# EAGLE library part EXB-A10P103J (library Resistor Array)
RES ARRAY 8 RES 10K OHM 2512 Manufacturer's datasheet <https://industrial.panasonic.com/cdbs/www-data/pdf/AOC0000/AOC0000C12.pdf>
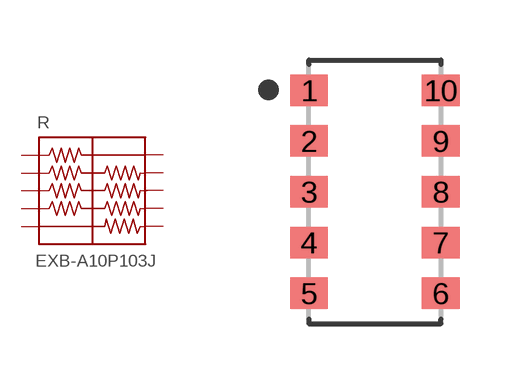
[diagram p6: symbol with the pads of EXB-A10P103J; footprint EXB-A10P103J]

Designator prefix R

## EXB-A10P103J (CREATED_BY: PCBLayout.com; DIGIKEY_PARTNO: U7103TR-ND; MANUFACTURER: Panasonic Electronic Components; MPN: EXB-A10P103J; PACKAGE: 2512)  [EXB-A10P103J]
1  1  pas
2  2  pas
3  3  pas
4  4  pas
5  5  pas
6  6  pas
7  7  pas
8  8  pas
9  9  pas
10  10  pas

## Footprint EXB-A10P103J (pad centres in mm)
10-Chiparray 2-Side Flat, 1.27 mm pitch, 6.50 X 3.20 X 0.66 mm body 10-pin Chiparray 2-Side Flat package with 1.27 mm pitch with body size 6.50 X 3.20 X 0.66 mm
smd 0.94 x 0.789: 1 -1.645,2.54; 2 -1.645,1.27; 3 -1.645,0; 4 -1.645,-1.27; 5 -1.645,-2.54; 6 1.645,-2.54; 7 1.645,-1.27; 8 1.645,0; 9 1.645,1.27; 10 1.645,2.54